# Altium footprint library MOLEX_1054301104.PcbLib: 1 footprints
Each footprint in its own frame and in the unit in brackets; x right, y up, seen from the top. Pads: shape width x height; smd on the part's side, far side on the other; paste and mask are expansions set on the pad; w line width, h text height; cw(c..) or ccw(c..) is an arc to the next point about the centre after c.
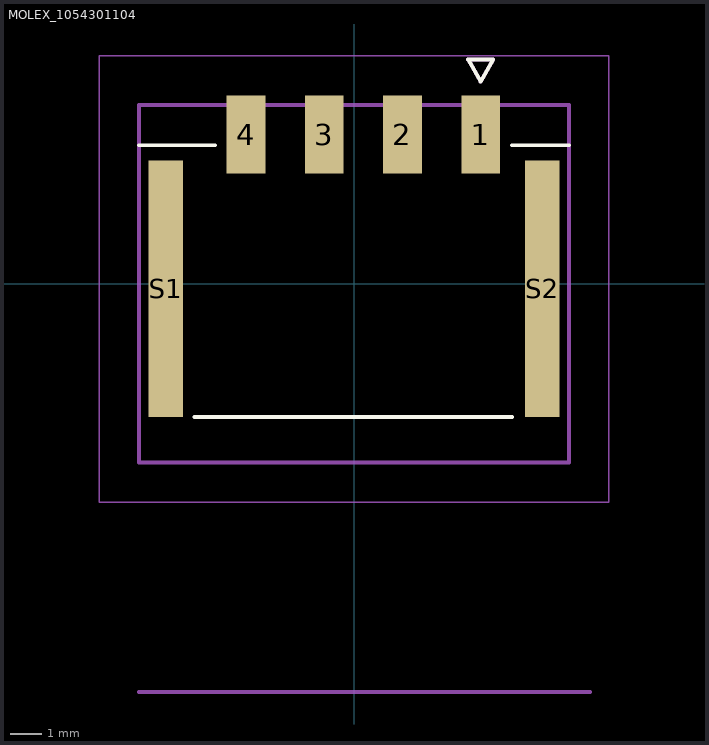
[diagram p0: the footprint, top view; thin cyan lines are the x and y axes]

## MOLEX_1054301104 [mm]
height 6.99
pads (6):
  rect 1.24x2.5 smd mask+0.076: 1(4.05,4.775) 2(1.55,4.775) 3(-0.95,4.775) 4(-3.45,4.775)
  rect 1.1x8.2 smd mask+0.076: S1(-6.02,-0.155) S2(6.02,-0.155)
Top Overlay:
  lines w0.127: -6.87,4.435 -4.45,4.435 ; -5.1,-4.255 5.05,-4.255 ; 5.05,4.435 6.87,4.435 ; 3.65,7.175 4.45,7.175 4.05,6.475 3.65,7.175
Mechanical 13:
  lines w0.127: -6.87,-13.055 7.55,-13.055 ; -6.87,-5.715 6.87,-5.715 6.87,5.715 -6.87,5.715 -6.87,-5.715 ; 3.65,7.175 4.45,7.175 4.05,6.475 3.65,7.175
  text "PCB Edge" at 2.63,-12.725 h0.75
  text "MAX" at -8.37,-9.725 h0.75
Mechanical 15:
  lines w0.05: -8.14,-6.985 -8.14,7.295 8.14,7.295 8.14,-6.985 -8.14,-6.985